# Altium footprint library VL53L1X.PcbLib: 1 footprints
Each footprint in its own frame and in the unit in brackets; x right, y up, seen from the top. Pads: shape width x height; smd on the part's side, far side on the other; paste and mask are expansions set on the pad; w line width, h text height; cw(c..) or ccw(c..) is an arc to the next point about the centre after c.
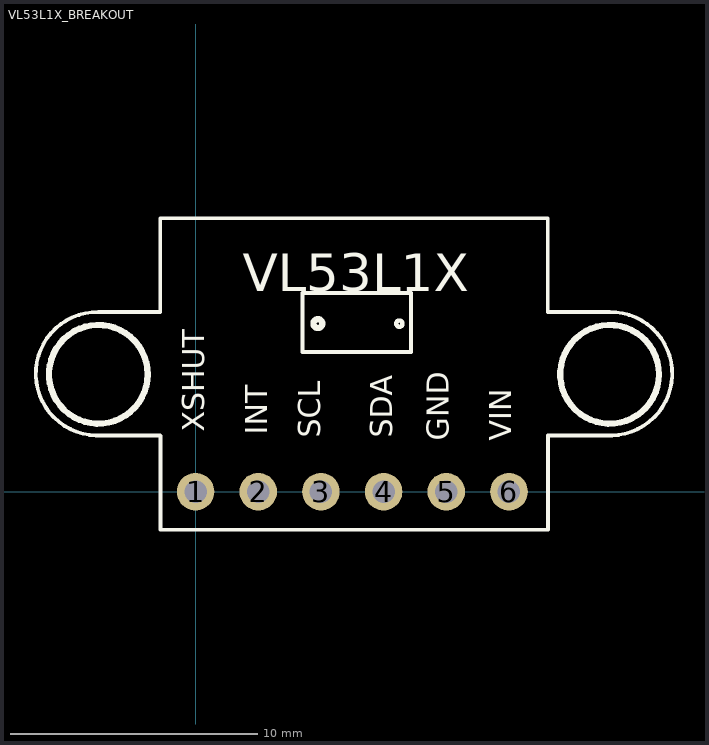
[diagram p0: the footprint, top view; thin cyan lines are the x and y axes]

## VL53L1X_BREAKOUT [mil]
pads (6):
  round 60 hole 36 paste-99999 mask+4: 1(0,0) 2(100,0) 3(200,0) 4(300,0) 5(400,0) 6(500,0)
Top Overlay:
  circle w10: c195.1,268.21 r7
  circle w7: c325.1,268.21 r5
  circle w10: c660.63,187.33 r78.74
  circle w10: c-155.1,187.33 r78.74
  lines w6: -56.3,89.87 -158.66,89.87 cw(c-156.44,188.29) -154.72,286.72 -56.3,286.72 ; -56.27,286.73 -56.27,436.33 561.84,436.33 561.84,286.73 660.26,286.73 cw(c661.98,188.3) 664.2,89.88 561.84,89.88 ; -55.9,88.91 -55.9,-60.7 562.21,-60.7 562.21,88.91 ; 170.48,222.77 343.71,222.77 343.71,317.26 170.48,317.26 170.48,222.77
  text "VL53L1X" at 75,320 h60
  text "INT" at 114,91 h35
  text "SDA" at 314,86 h35
  text "SCL" at 199,86 h35
  text "GND" at 404,81 h35
  text "VIN" at 504,81 h35
  text "XSHUT" at 14,96 h35